# Altium footprint library PAL.PcbLib: 183 footprints (part 12 of 12)
Each footprint in its own frame and in the unit in brackets; x right, y up, seen from the top. Pads: shape width x height; smd on the part's side, far side on the other; paste and mask are expansions set on the pad; w line width, h text height; cw(c..) or ccw(c..) is an arc to the next point about the centre after c.
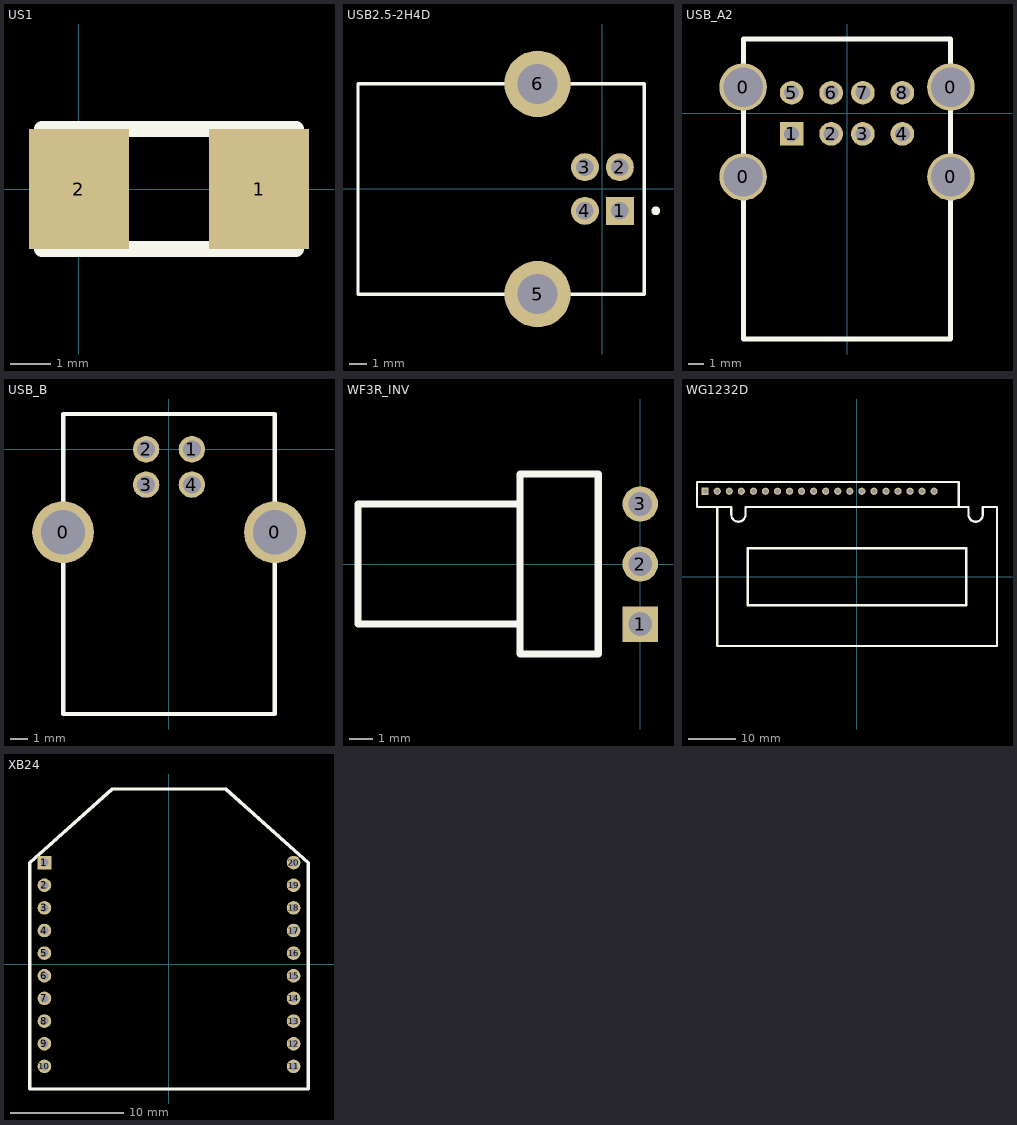
[diagram p11: the footprints below, top view; thin cyan lines are the x and y axes]

## US1 [mm]
pads (2):
  rect 2.5x3 smd: 1(4.5,0) 2(0,0)
Top Overlay:
  lines w0.4: 0.345,-1.5 0.345,1.5 ; -0.925,-1.5 5.425,-1.5 5.425,1.5 -0.925,1.5 -0.925,-1.5

## USB2.5-2H4D [mm]
pads (6):
  rect 1.6x1.6 hole 1: 1(0.993,-1.256)
  round 1.6 hole 1: 2(0.993,1.244) 3(-1.007,1.244) 4(-1.007,-1.256)
  round 3.8 hole 2.3: 5(-3.717,-6.026) 6(-3.717,6.014)
Top Overlay:
  circle w0.25: c3.053,-1.256 r0.125
  lines w0.2: -1.417,-6.026 2.403,-6.026 2.403,6.014 -1.417,6.014 ; 0,-6.026 -13.997,-6.026 -13.997,6.014 0,6.014

## USB_A2 [mm]
pads (12):
  round 3 hole 2.5: 0(-6.57,-4.02) 0(-6.57,1.66) 0(6.57,-4.02) 0(6.57,1.66)
  rect 1.5x1.5 hole 0.95: 1(-3.5,-1.3)
  round 1.5 hole 0.95: 2(-1,-1.3) 3(1,-1.3) 4(3.5,-1.3) 5(-3.5,1.3) 6(-1,1.3) 7(1,1.3) 8(3.5,1.3)
Top Overlay:
  lines w0.3: -6.55,-14.28 6.55,-14.28 6.55,4.7 -6.55,4.7 -6.55,-14.28

## USB_B [mm]
pads (6):
  round 3.5 hole 2.5: 0(-5.987,-4.689) 0(6.013,-4.689)
  round 1.5 hole 1: 1(1.313,0.011) 2(-1.287,0.011) 3(-1.287,-1.989) 4(1.313,-1.989)
Top Overlay:
  lines w0.254: -5.987,-14.989 -5.987,0.011 -5.987,2.011 6.013,2.011 6.013,-14.989 -5.987,-14.989

## WF3R_INV [mm]
pads (3):
  rect 1.5x1.5 hole 1: 1(0,-2.54)
  round 1.5 hole 1: 2(0,0) 3(0,2.54)
Top Overlay:
  lines w0.3: -5.08,-2.54 -11.938,-2.54 -11.938,2.54 -5.08,2.54 ; -5.08,-3.81 -1.778,-3.81 -1.778,3.81 -5.08,3.81 -5.08,-3.81

## WG1232D [mm]
pads (20):
  rect 1.5x1.5 hole 1: 1(-32,18)
  round 1.5 hole 1: 2(-29.46,18) 3(-26.92,18) 4(-24.38,18) 5(-21.84,18) 6(-19.3,18) 7(-16.76,18) 8(-14.22,18) 9(-11.68,18) 10(-9.14,18) 11(-6.6,18) 12(-4.06,18) 13(-1.52,18) 14(1.02,18) 15(3.56,18) 16(6.1,18) 17(8.64,18) 18(11.18,18) 19(13.72,18) 20(16.26,18)
Top Overlay:
  lines w0.48: -26.49,13.075 ccw(c-24.99,13.075) -23.49,13.075 ; 23.51,13.075 ccw(c25.01,13.075) 26.51,13.075
  lines w0.5: -29.475,14.65 -29.475,14.675 -33.725,14.675 -33.725,19.95 21.4,19.95 ; -26.515,13.1 -26.515,14.65 ; -26.515,14.675 -29.49,14.675 -29.49,-14.625 29.51,-14.625 29.51,14.675 26.535,14.675 ; -23.49,13.125 -23.49,14.675 23.51,14.675 23.51,13.125 ; 21.45,14.675 21.45,19.9 ; 26.535,13.1 26.535,14.65 ; -23,-6 -23,6 23,6 23,-6 -23,-6

## XB24 [mm]
pads (20):
  rect 1.2x1.2 hole 0.7: 1(-11,9)
  round 1.2 hole 0.7: 2(-11,7) 3(-11,5) 4(-11,3) 5(-11,1) 6(-11,-1) 7(-11,-3) 8(-11,-5) 9(-11,-7) 10(-11,-9) 11(11,-9) 12(11,-7) 13(11,-5) 14(11,-3) 15(11,-1) 16(11,1) 17(11,3) 18(11,5) 19(11,7) 20(11,9)
Top Overlay:
  lines w0.3: -12.3,-11 0,-11 12.3,-11 12.3,9 5,15.5 0,15.5 -5,15.5 -12.3,9 -12.3,-11